# Altium footprint library L293D.PcbLib: 1 footprints
Each footprint in its own frame and in the unit in brackets; x right, y up, seen from the top. Pads: shape width x height; smd on the part's side, far side on the other; paste and mask are expansions set on the pad; w line width, h text height; cw(c..) or ccw(c..) is an arc to the next point about the centre after c.
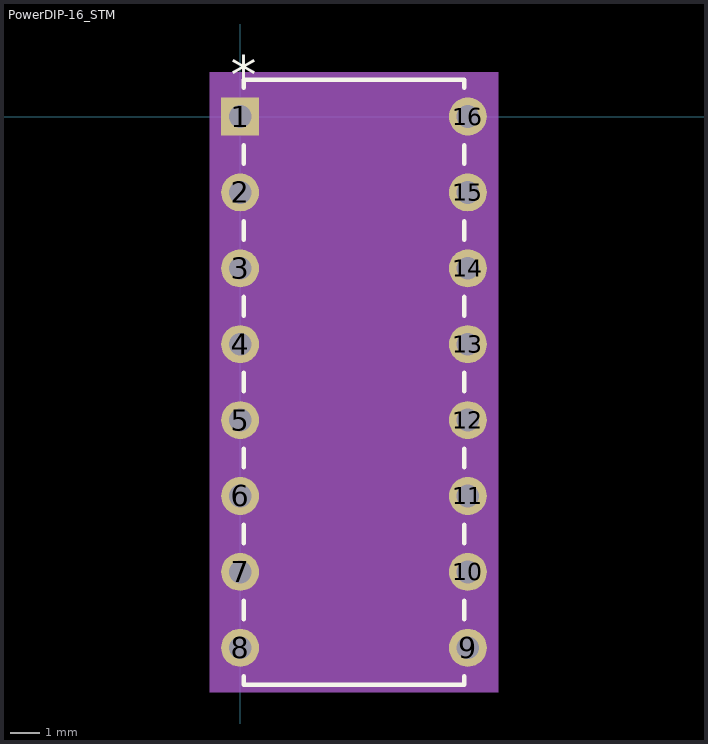
[diagram p0: the footprint, top view; thin cyan lines are the x and y axes]

## PowerDIP-16_STM [mil]
pads (16):
  rect 50x50 hole 30 mask+0: 1(0,0)
  round 50 hole 30 mask+0: 2(0,-100) 3(0,-200) 4(0,-300) 5(0,-400) 6(0,-500) 7(0,-600) 8(0,-700) 9(300,-700) 10(300,-600) 11(300,-500) 12(300,-400) 13(300,-300) 14(300,-200) 15(300,-100) 16(300,0)
Top Overlay:
  lines w6: 5,-737.77 5,-748.5 295,-748.5 295,-737.77 ; 5,-662.23 5,-637.77 ; 5,-562.23 5,-537.77 ; 5,-462.23 5,-437.77 ; 5,-362.23 5,-337.77 ; 5,-262.23 5,-237.77 ; 5,-162.23 5,-137.77 ; 5,-62.23 5,-38.1 ; 5,38.1 5,48.5 295,48.5 295,37.77 ; 295,-662.23 295,-637.77 ; 295,-562.23 295,-537.77 ; 295,-462.23 295,-437.77 ; 295,-362.23 295,-337.77 ; 295,-262.23 295,-237.77 ; 295,-162.23 295,-137.77 ; 295,-62.23 295,-37.77
  text "*" at -12.5,30 h50
Mechanical 5:
  region: 340,-758.5 -40,-758.5 -40,58.5 340,58.5
Mechanical 13:
  lines w0: 138,43.5 ccw(c150,43.5) 162,43.5
  lines w1: -15,-715 10,-715 10,-685 -15,-685 -15,-715 ; -15,-615 10,-615 10,-585 -15,-585 -15,-615 ; -15,-515 10,-515 10,-485 -15,-485 -15,-515 ; -15,-415 10,-415 10,-385 -15,-385 -15,-415 ; -15,-315 10,-315 10,-285 -15,-285 -15,-315 ; -15,-215 10,-215 10,-185 -15,-185 -15,-215 ; -15,-115 10,-115 10,-85 -15,-85 -15,-115 ; -15,-15 10,-15 10,15 -15,15 -15,-15 ; 10,-743.5 10,43.5 290,43.5 290,-743.5 10,-743.5 ; 290,-715 315,-715 315,-685 290,-685 290,-715 ; 290,-615 315,-615 315,-585 290,-585 290,-615 ; 290,-515 315,-515 315,-485 290,-485 290,-515 ; 290,-415 315,-415 315,-385 290,-385 290,-415 ; 290,-315 315,-315 315,-285 290,-285 290,-315 ; 290,-215 315,-215 315,-185 290,-185 290,-215 ; 290,-115 315,-115 315,-85 290,-85 290,-115 ; 290,-15 315,-15 315,15 290,15 290,-15
  text "*" at 7.5,-25 h50
Mechanical 15:
  region: 300,-735 335,-735 335,35 300,35 300,53.5 0,53.5 0,35 -35,35 -35,-735 0,-735 0,-753.5 300,-753.5
  lines w6: -35,-735 0,-735 0,-753.5 300,-753.5 300,-735 335,-735 335,35 300,35 300,53.5 0,53.5 0,35 -35,35 -35,-735
3D body "PowerDIP-16_STM.step": height 206.1, standoff -100, extent -5,-743.5 315,43.5